# Altium schematic symbol library 105017-0001.SchLib: 1 symbol
Pins are listed as number, name and electrical type; pins without a type are passive.

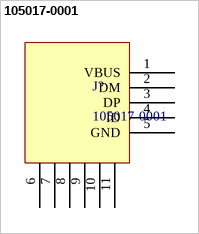
[diagram p0: symbol 105017-0001]

## 105017-0001
designator J?
Micro USB, B type, Molex
footprint 105017-0001 (Molex 105017-0001)
pins: 1 VBUS, 2 DM, 3 DP, 4 ID, 5 GND, 6, 7, 8, 9, 10, 11